# EAGLE library part AQM0802A (library akizuki)
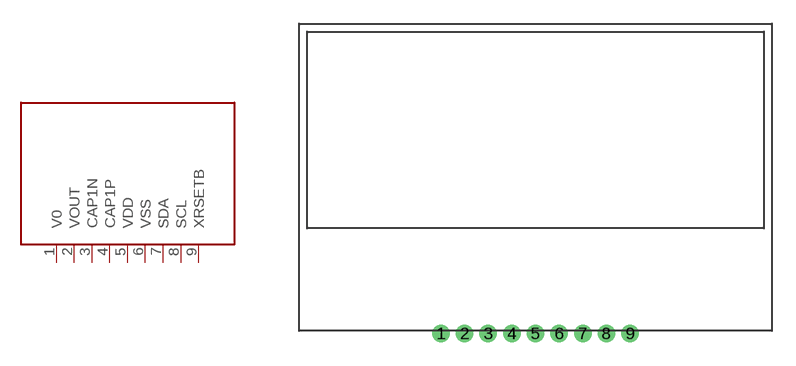
[diagram p0: symbol with the pads of AQM0802A; footprint AQM0802A]

Designator prefix -

## AQM0802A  [AQM0802A]
1  V0
2  VOUT
3  CAP1N
4  CAP1P
5  VDD
6  VSS
7  SDA
8  SCL
9  XRSETB

## Footprint AQM0802A (pad centres in mm)
drill 0.6: 1 -6,-9.9; 2 -4.5,-9.9; 3 -3,-9.9; 4 -1.5,-9.9; 5 0,-9.9; 6 1.5,-9.9; 7 3,-9.9; 8 4.5,-9.9; 9 6,-9.9